# Altium footprint library DHT11.PcbLib: 2 footprints
Each footprint in its own frame and in the unit in brackets; x right, y up, seen from the top. Pads: shape width x height; smd on the part's side, far side on the other; paste and mask are expansions set on the pad; w line width, h text height; cw(c..) or ccw(c..) is an arc to the next point about the centre after c.
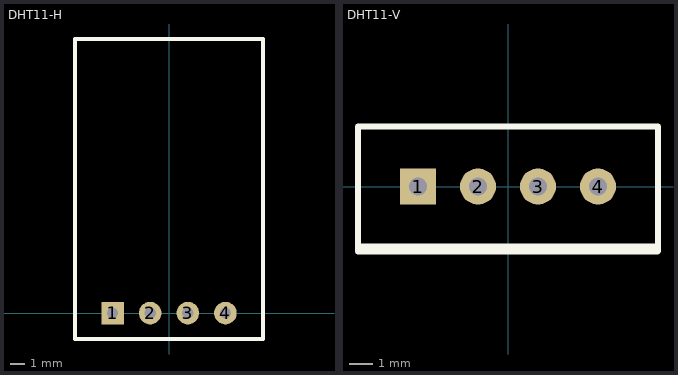
[diagram p0: the footprints below, top view; thin cyan lines are the x and y axes]

## DHT11-H [mil]
height 216.54
pads (4):
  rect 60x60 hole 30: 1(-150,0)
  round 60 hole 30: 2(-50,0) 3(50,0) 4(150,0)
Top Overlay:
  lines w10: -250,-68.9 250,-68.9 250,728.35 -250,728.35 -250,-68.9
3D body "DHT11-H.step": height 216.54, standoff -102.36, extent -236.21,-13.77 236.23,714.57

## DHT11-V [mil]
height 610.24
pads (4):
  rect 60x60 hole 30: 1(-150,0)
  round 60 hole 30: 2(-50,0) 3(50,0) 4(150,0)
Top Overlay:
  lines w10: -250,-100 -250,-108.27 249.02,-108.27 250,-107.28 250,-100 ; -250,-100 250,-100 ; -250,-100 -250,100 250,100 250,-100
3D body "DHT11-V.step": height 620.08, standoff -305.12, extent -236.22,-108.27 236.22,108.27